# EAGLE library part VS1053B-MOD (library yb-library)
VS1053B Audio Module (China Board)
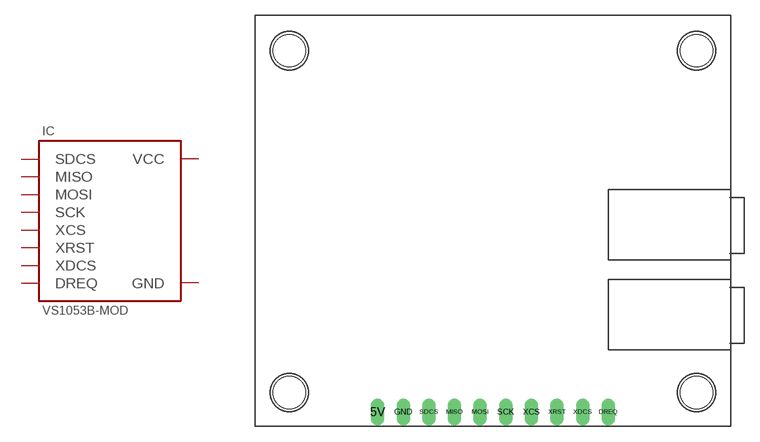
[diagram p13: symbol with the pads of VS1053B; footprint VS1053B]

Designator prefix IC

## VS1053B-MOD  [VS1053B]
5V  VCC  pwr
DREQ  DREQ  out
GND  GND  pwr
MISO  MISO  out
MOSI  MOSI  in
SCK  SCK  in
SDCS  SDCS  in
XCS  XCS  in
XDCS  XDCS  in
XRST  XRST  in

## Footprint VS1053B (pad centres in mm)
drill 0.813 long: 5V -11.43,-18.891; DREQ 11.43,-18.891; GND -8.89,-18.891; MISO -3.81,-18.891; MOSI -1.27,-18.891; SCK 1.27,-18.891; SDCS -6.35,-18.891; XCS 3.81,-18.891; XDCS 8.89,-18.891; XRST 6.35,-18.891
hole 3.2 at 20.193,-16.954
hole 3.2 at -20.193,-16.954
hole 3.2 at 20.193,16.954
hole 3.2 at -20.193,16.954